# EAGLE library part CRUMB644 (library crumb644)
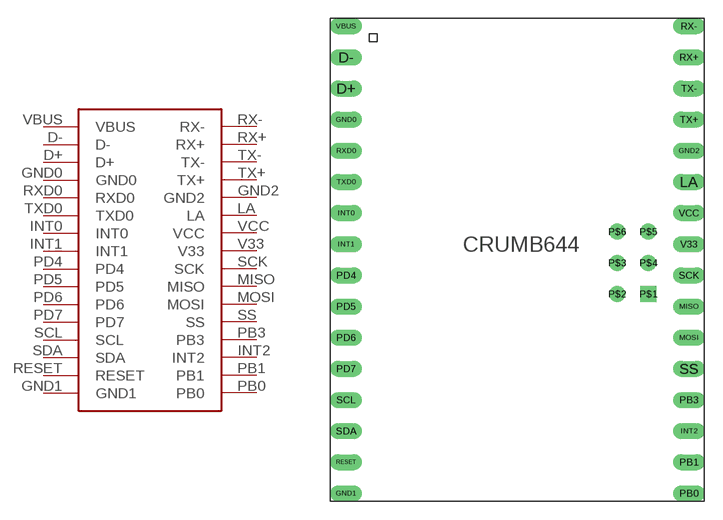
[diagram p0: symbol with the pads of CRUMB644; footprint CRUMB644]

Designator prefix -

## CRUMB644  [CRUMB644]
D+  D+
D-  D-
GND0  GND0
GND1  GND1
GND2  GND2
INT0  INT0
INT1  INT1
INT2  INT2
LA  LA
MISO  MISO
MOSI  MOSI
PB0  PB0
PB1  PB1
PB3  PB3
PD4  PD4
PD5  PD5
PD6  PD6
PD7  PD7
RESET  RESET
RX+  RX+
RX-  RX-
RXD0  RXD0
SCK  SCK
SCL  SCL
SDA  SDA
SS  SS
TX+  TX+
TX-  TX-
TXD0  TXD0
V33  V33
VBUS  VBUS
VCC  VCC

## Footprint CRUMB644 (pad centres in mm)
drill 0.8 long: D+ -13.97,13.97; D- -13.97,16.51; GND0 -13.97,11.43; GND1 -13.97,-19.05; GND2 13.97,8.89; INT0 -13.97,3.81; INT1 -13.97,1.27; INT2 13.97,-13.97; LA 13.97,6.35; MISO 13.97,-3.81; MOSI 13.97,-6.35; PB0 13.97,-19.05; PB1 13.97,-16.51; PB3 13.97,-11.43; PD4 -13.97,-1.27; PD5 -13.97,-3.81; PD6 -13.97,-6.35; PD7 -13.97,-8.89; RESET -13.97,-16.51; RX+ 13.97,16.51; RX- 13.97,19.05; RXD0 -13.97,8.89; SCK 13.97,-1.27; SCL -13.97,-11.43; SDA -13.97,-13.97; SS 13.97,-8.89; TX+ 13.97,11.43; TX- 13.97,13.97; TXD0 -13.97,6.35; V33 13.97,1.27; VBUS -13.97,19.05; VCC 13.97,3.81
drill 0.8 square: P$1 10.668,-2.794
drill 0.8 round: P$2 8.128,-2.794; P$3 8.128,-0.254; P$4 10.668,-0.254; P$5 10.668,2.286; P$6 8.128,2.286